# Altium schematic symbol library AT45DB081B.Schlib: 1 symbol
Pins are listed as number, name and electrical type; pins without a type are passive.

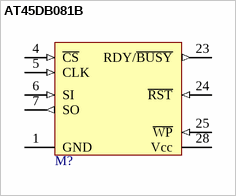
[diagram p0: symbol AT45DB081B]

## AT45DB081B
designator M?
1Mbyte FLASH Serial Memory
footprint SO-28
pins: 1 GND (power), 4 ~{CS} (in), 5 CLK (in), 6 SI (in), 7 SO (out), 23 RDY/~{BUSY} (out), 24 ~{RST} (in), 25 ~{WP} (in), 28 Vcc (power)